# EAGLE library part KT88-P (library eagle_tubes_v6)
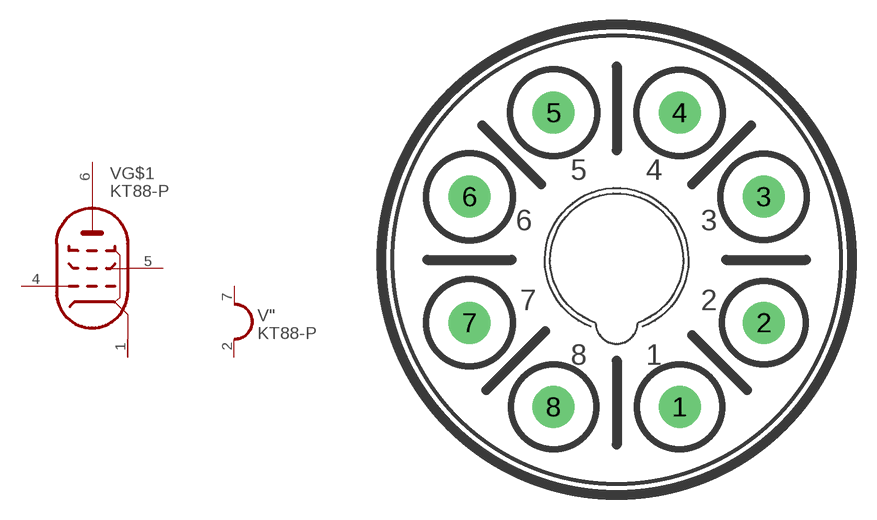
[diagram p14: symbol with the pads of OKTAL; footprint OKTAL]

Designator prefix V; gates G$1=PENTODE "=HEATER_1

## KT88-P  [OKTAL]
1  G$1:PK  pas
2  ":H2  pas
4  G$1:PG  pas
5  G$1:PSG  pas
6  G$1:PA  pas
7  ":H1  pas

## Footprint OKTAL (pad centres in mm)
drill 1.27 pad 2.54: 1 3.81,-8.89; 2 8.89,-3.81; 3 8.89,3.81; 4 3.81,8.89; 5 -3.81,8.89; 6 -8.89,3.81; 7 -8.89,-3.81; 8 -3.81,-8.89